# Altium schematic symbol library AD7492.Schlib: 1 symbol
Pins are listed as number, name and electrical type; pins without a type are passive.

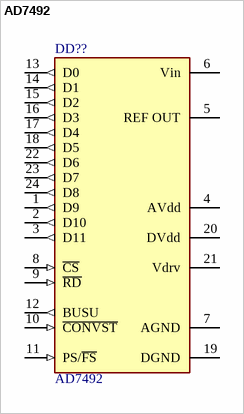
[diagram p0: symbol AD7492]

## AD7492
designator DD??
12-Bit Parallel ADC, 1.25 MSPS, 16 mW Internal REF and CLK
footprint TSSOP24_AD
pins: 1 D9 (out), 2 D10 (out), 3 D11 (out), 4 AVdd (hiz), 5 REF OUT (hiz), 6 Vin (hiz), 7 AGND (hiz), 8 ~{CS} (in), 9 ~{RD} (in), 10 ~{CONVST} (in), 11 PS/~{FS} (in), 12 BUSU (out), 13 D0 (out), 14 D1 (out), 15 D2 (out), 16 D3 (out), 17 D4 (out), 18 D5 (out), 19 DGND (power), 20 DVdd (power), 21 Vdrv (hiz), 22 D6 (out), 23 D7 (out), 24 D8 (out)